# Altium schematic symbol library Inductances.SchLib: 8 symbols
Pins are listed as number, name and electrical type; pins without a type are passive.

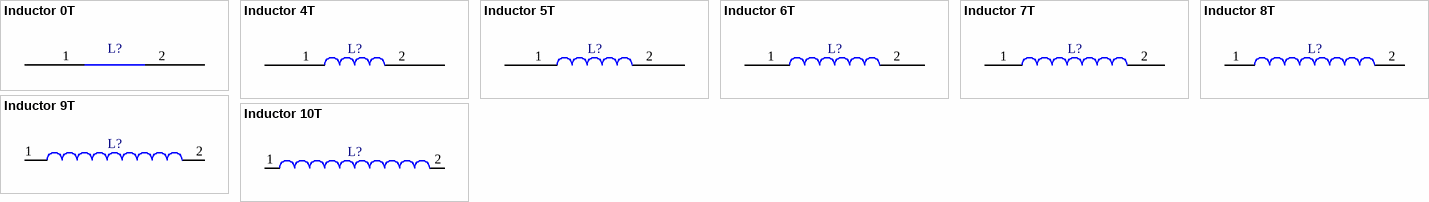
[diagram p0: symbols Inductor 0T to Inductor 10T]

## Inductor 0T
designator L?  (value not drawn)
footprint Inductor 0T
pins: 1, 2

## Inductor 4T
designator L?  (value not drawn)
footprint Inductor 4T
pins: 1, 2

## Inductor 5T
designator L?  (value not drawn)
footprint Inductor 5T
pins: 1, 2

## Inductor 6T
designator L?  (value not drawn)
footprint Inductor 6T
pins: 1, 2

## Inductor 7T
designator L?  (value not drawn)
footprint Inductor 7T
pins: 1, 2

## Inductor 8T
designator L?  (value not drawn)
footprint Inductor 8T
pins: 1, 2

## Inductor 9T
designator L?  (value not drawn)
footprint Inductor 9T
pins: 1, 2

## Inductor 10T
designator L?  (value not drawn)
footprint Inductor 10T
pins: 1, 2